# Altium schematic symbol library TPS2420.Schlib: 1 symbol
Pins are listed as number, name and electrical type; pins without a type are passive.

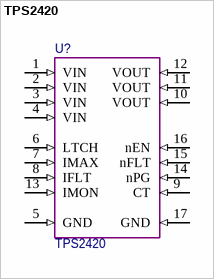
[diagram p0: symbol TPS2420]

## TPS2420
designator U?
pins: 1 VIN (in) "Power in and control supply voltage .", 2 VIN (in) "Power in and control supply voltage .", 3 VIN (in) "Power in and control supply voltage .", 4 VIN (in) "Power in and control supply voltage .", 5 GND (in) "Ground", 6 LTCH (in) "If low, the TPS2420 will attempt to restart after an overcurrent fault", 7 IMAX (in) "A resistor to ground sets the current-limit level.", 8 IFLT (in) "A resistor to ground sets the fault current level.", 9 CT (in) "A capacitor to ground sets the fault time", 10 VOUT (in) "Output to the load.", 11 VOUT (in) "Output to the load.", 12 VOUT (in) "Output to the load.", 13 IMON (in) "A scaled down current which indicates the current through the device", 14 nPG (in) "Power Good low represents the output voltage is within 300 mV of the input voltage.", 15 nFLT (in) "Fault low indicated the fault time has expired and the FET is switched off", 16 nEN (in) "Device is enabled when this pin is pulled low", 17 GND (in) "Device Pad"